# Altium schematic symbol library LM324.SchLib: 1 symbol
Pins are listed as number, name and electrical type; pins without a type are passive.

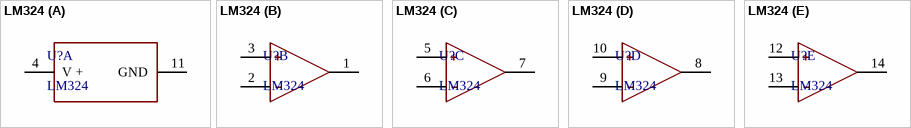
[diagram p0: symbol LM324]

## LM324
designator U?
footprint DIP14
part A pins: 4 V + "Termal Pad", 11 GND "Termal Pad"
part B pins: 1 "Termal Pad", 2 "Termal Pad", 3 "Termal Pad"
part C pins: 5 "Termal Pad", 6 "Termal Pad", 7 "Termal Pad"
part D pins: 8 "Termal Pad", 9 "Termal Pad", 10 "Termal Pad"
part E pins: 12 "Termal Pad", 13 "Termal Pad", 14 "Termal Pad"